# Altium schematic symbol library AD9833.SchLib: 1 symbol
Pins are listed as number, name and electrical type; pins without a type are passive.

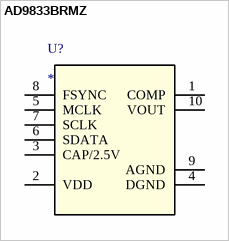
[diagram p0: symbol AD9833BRMZ]

## AD9833BRMZ
designator U?
Imported; Manufacturer_Part_Number: AD9833BRMZ; Vendor: Vendor; Value: Value; Type: Type; RefDes: Refdes
footprint RM_10
pins: 1 COMP, 2 VDD (power), 3 CAP/2.5V (power), 4 DGND, 5 MCLK, 6 SDATA, 7 SCLK, 8 FSYNC, 9 AGND, 10 VOUT